# Altium integrated library ST Video Signal Processor.IntLib: 10 symbols
Pins are listed as number, name and electrical type; pins without a type are passive.

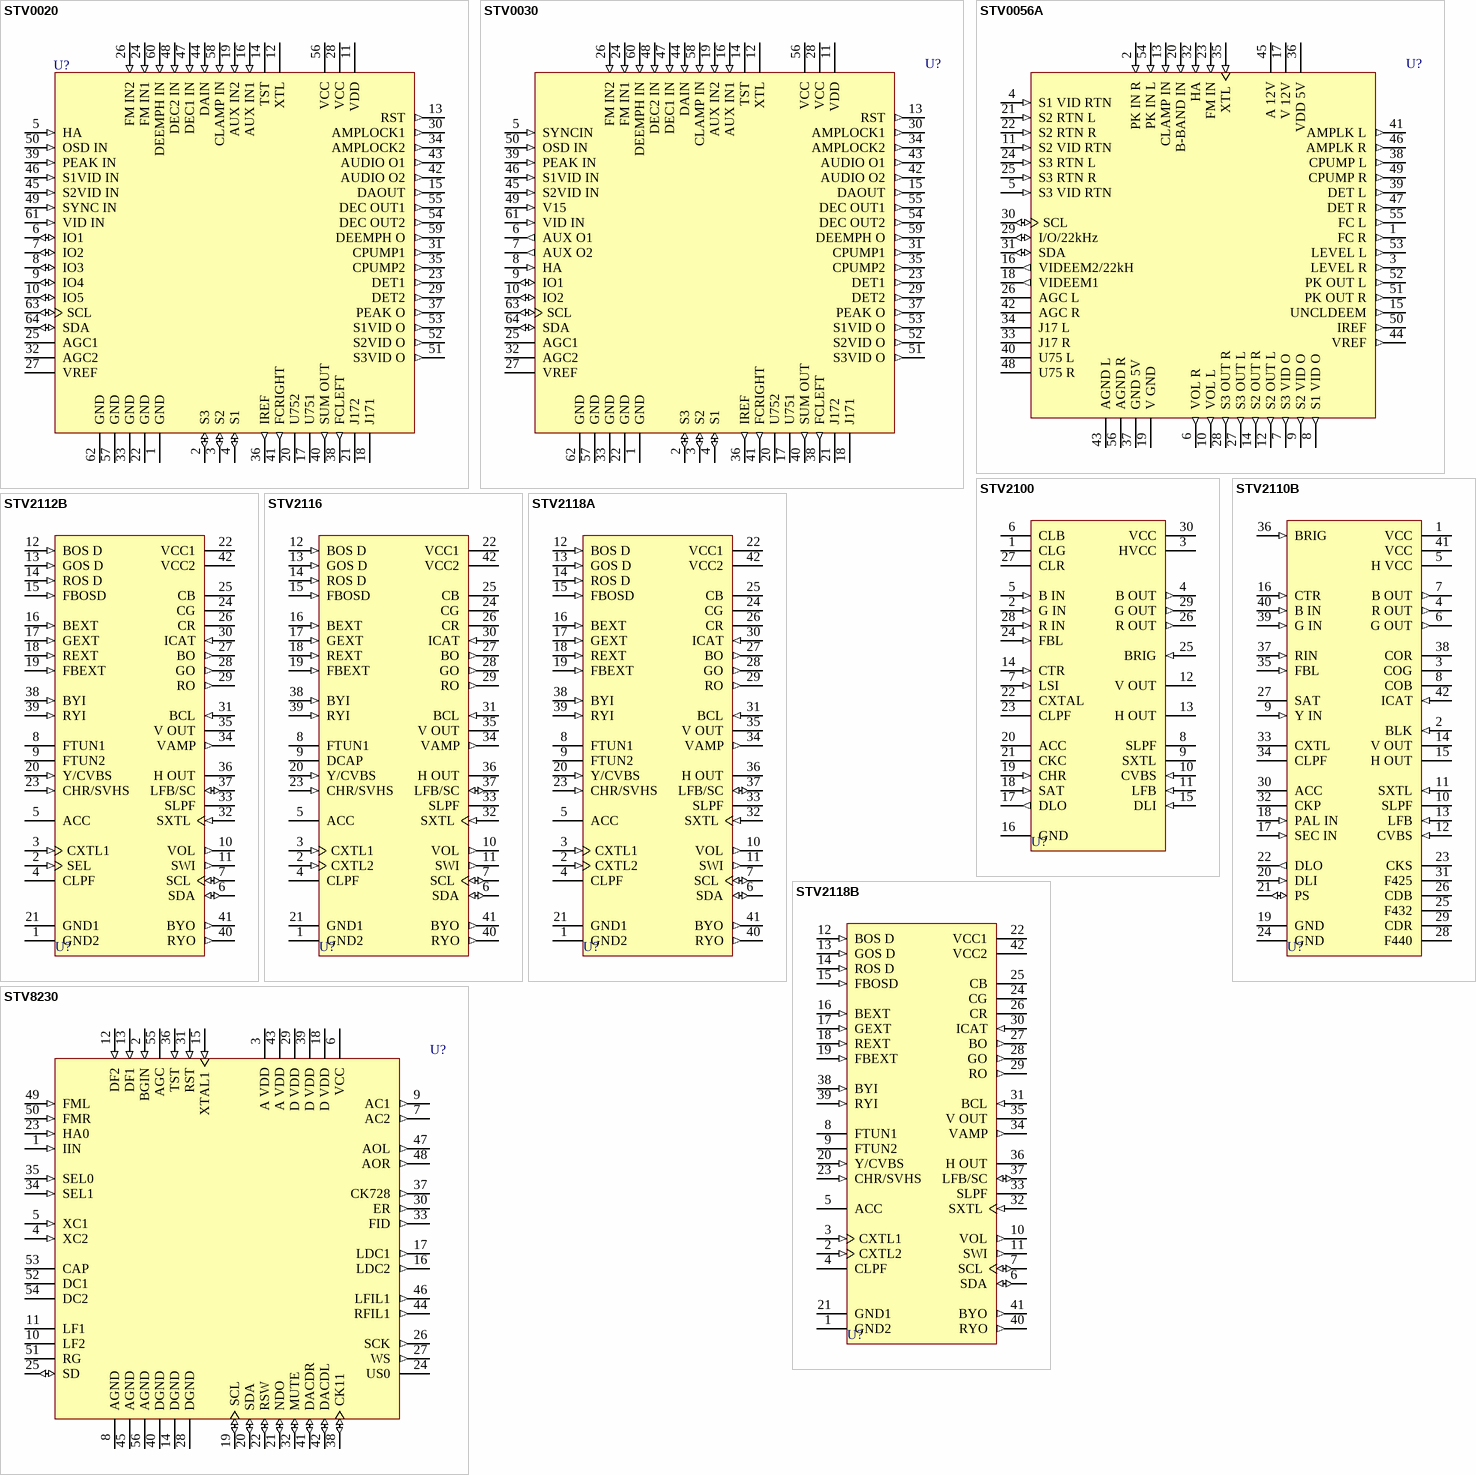
[diagram p0: symbols STV0020 to STV8230]

## STV0020
designator U?
Satellite Sound and Video Processor; Published: 24-Aug-2001; LatestRevisionDate: 6-Jun-2005; LatestRevisionNote: Stylized 3D Model Added.; DatasheetDocument: Feb-1994; PackageDocument: Jul-2001; PackageReference: PQFP64; Publisher: Altium Limited; ComponentLink1Description: Manufacturer Link; ComponentLink1URL: http://www.st.com/
footprint PQFP64 (QFP, Plastic; 64 Leads; Body 14 x 14 mm; Pitch 0.8 mm)
3D model STV0020-PQFP64 (QFP, Plastic; 64 Leads; Body 14 x 14 mm; Pitch 0.8 mm)
pins: 1 GND (power), 2 S3 (io), 3 S2 (io), 4 S1 (io), 5 HA (in), 6 IO1 (io), 7 IO2 (io), 8 IO3 (io), 9 IO4 (io), 10 IO5 (io), 11 VDD (power), 12 XTL, 13 RST (out), 14 TST, 15 DAOUT (out), 16 AUX IN1 (in), 17 U751, 18 J171, 19 AUX IN2 (in), 20 U752, 21 J172, 22 GND (power), 23 DET1 (out), 24 FM IN1 (in), 25 AGC1, 26 FM IN2 (in), 27 VREF, 28 VCC (power), 29 DET2 (out), 30 AMPLOCK1 (out), 31 CPUMP1 (out), 32 AGC2, 33 GND (power), 34 AMPLOCK2 (out), 35 CPUMP2 (out), 36 IREF (out), 37 PEAK O (out), 38 FCLEFT (out), 39 PEAK IN (in), 40 SUM OUT (out), 41 FCRIGHT (out), 42 AUDIO O2 (out), 43 AUDIO O1 (out), 44 DAIN (in), 45 S2VID IN (in), 46 S1VID IN (in), 47 DEC1 IN (in), 48 DEC2 IN (in), 49 SYNC IN (in), 50 OSD IN (in), 51 S3VID O (out), 52 S2VID O (out), 53 S1VID O (out), 54 DEC OUT2 (out), 55 DEC OUT1 (out), 56 VCC (power), 57 GND (power), 58 CLAMP IN (in), 59 DEEMPH O (out), 60 DEEMPH IN (in), 61 VID IN (in), 62 GND (power), 63 SCL (io), 64 SDA (io)

## STV0030
designator U?
Satellite Sound and Video Processor; Published: 24-Aug-2001; LatestRevisionDate: 6-Jun-2005; LatestRevisionNote: Stylized 3D Model Added.; DatasheetDocument: Jun-1994; PackageDocument: Jul-2001; PackageReference: PQFP64; Publisher: Altium Limited; ComponentLink1Description: Manufacturer Link; ComponentLink1URL: http://www.st.com/
footprint PQFP64 (QFP, Plastic; 64 Leads; Body 14 x 14 mm; Pitch 0.8 mm)
3D model STV0030-PQFP64 (QFP, Plastic; 64 Leads; Body 14 x 14 mm; Pitch 0.8 mm)
pins: 1 GND (power), 2 S3 (io), 3 S2 (io), 4 S1 (io), 5 SYNCIN (in), 6 AUX O1 (out), 7 AUX O2 (out), 8 HA (in), 9 IO1 (io), 10 IO2 (io), 11 VDD (power), 12 XTL, 13 RST (out), 14 TST, 15 DAOUT (out), 16 AUX IN1 (in), 17 U751, 18 J171, 19 AUX IN2 (in), 20 U752, 21 J172, 22 GND (power), 23 DET1 (out), 24 FM IN1 (in), 25 AGC1, 26 FM IN2 (in), 27 VREF, 28 VCC (power), 29 DET2 (out), 30 AMPLOCK1 (out), 31 CPUMP1 (out), 32 AGC2, 33 GND (power), 34 AMPLOCK2 (out), 35 CPUMP2 (out), 36 IREF (out), 37 PEAK O (out), 38 FCLEFT (out), 39 PEAK IN (in), 40 SUM OUT (out), 41 FCRIGHT (out), 42 AUDIO O2 (out), 43 AUDIO O1 (out), 44 DAIN (in), 45 S2VID IN (in), 46 S1VID IN (in), 47 DEC1 IN (in), 48 DEC2 IN (in), 49 V15 (in), 50 OSD IN (in), 51 S3VID O (out), 52 S2VID O (out), 53 S1VID O (out), 54 DEC OUT2 (out), 55 DEC OUT1 (out), 56 VCC (power), 57 GND (power), 58 CLAMP IN (in), 59 DEEMPH O (out), 60 DEEMPH IN (in), 61 VID IN (in), 62 GND (power), 63 SCL (io), 64 SDA (io)

## STV0056A
designator U?
Satellite Sound and Video Processor; Published: 24-Aug-2001; LatestRevisionDate: 6-Jun-2005; LatestRevisionNote: Stylized 3D Model Added.; DatasheetDocument: Sep-1996; PackageDocument: Jan-2002; PackageReference: PSDIP56; Publisher: Altium Limited; ComponentLink1Description: Manufacturer Link; ComponentLink1URL: http://www.st.com/; ComponentLink2Description: Datasheet; ComponentLink2URL: http://www.st.com/stonline/products/literature/ds/10589/stv0056a.pdf
footprint PSDIP56 (DIP, Plastic Shrink; 56 Leads; Row Spacing 15.24 mm; Pitch 1.78 mm)
3D model PSDIP56 (DIP, Plastic Shrink; 56 Leads; Row Spacing 15.24 mm; Pitch 1.78 mm)
pins: 1 FC R (out), 2 PK IN R (in), 3 LEVEL R (out), 4 S1 VID RTN (in), 5 S3 VID RTN (in), 6 VOL R (out), 7 S3 VID O (out), 8 S1 VID O (out), 9 S2 VID O (out), 10 VOL L (out), 11 S2 VID RTN (in), 12 S2 OUT L (out), 13 CLAMP IN (in), 14 S2 OUT R (out), 15 UNCLDEEM (out), 16 VIDEEM2/22kH (out), 17 V 12V (power), 18 VIDEEM1 (out), 19 V GND (power), 20 B-BAND IN (in), 21 S2 RTN L (in), 22 S2 RTN R (in), 23 FM IN (in), 24 S3 RTN L (in), 25 S3 RTN R (in), 26 AGC L, 27 S3 OUT L (out), 28 S3 OUT R (out), 29 I/O/22kHz (io), 30 SCL (io), 31 SDA (io), 32 HA (in), 33 J17 R, 34 J17 L, 35 XTL (in), 36 VDD 5V (power), 37 GND 5V (power), 38 CPUMP L (out), 39 DET L (out), 40 U75 L, 41 AMPLK L (out), 42 AGC R, 43 AGND L (power), 44 VREF (out), 45 A 12V (power), 46 AMPLK R (out), 47 DET R (out), 48 U75 R, 49 CPUMP R (out), 50 IREF (out), 51 PK OUT R (out), 52 PK OUT L (out), 53 LEVEL L (out), 54 PK IN L (in), 55 FC L (out), 56 AGND R (power)

## STV2100
designator U?
PAL Luma-Chroma and Deflection Processor; Published: 24-Aug-2001; LatestRevisionDate: 6-Jun-2005; LatestRevisionNote: Stylized 3D Model Added.; DatasheetDocument: Mar-1992; PackageDocument: Nov-1999; PackageReference: SDIP30; Publisher: Altium Limited; ComponentLink1Description: Manufacturer Link; ComponentLink1URL: http://www.st.com/
footprint SDIP30 (DIP; 30 Leads; Row Spacing 10.16 mm; Pitch 1.778 mm)
3D model SDIP30 (DIP; 30 Leads; Row Spacing 10.16 mm; Pitch 1.778 mm)
pins: 1 CLG, 2 G IN (in), 3 HVCC (power), 4 B OUT (out), 5 B IN (in), 6 CLB, 7 LSI (in), 8 SLPF, 9 SXTL, 10 CVBS (in), 11 LFB (in), 12 V OUT (oc), 13 H OUT (oc), 14 CTR (in), 15 DLI (in), 16 GND (power), 17 DLO (out), 18 SAT (in), 19 CHR (in), 20 ACC, 21 CKC, 22 CXTAL, 23 CLPF, 24 FBL (in), 25 BRIG (in), 26 R OUT (out), 27 CLR, 28 R IN (in), 29 G OUT (out), 30 VCC (power)

## STV2110B
designator U?
PAL-SECAM Luma-Chroma and Deflection Processor; Published: 24-Aug-2001; LatestRevisionDate: 6-Jun-2005; LatestRevisionNote: Stylized 3D Model Added.; DatasheetDocument: Apr-1996; PackageDocument: Oct-2003; PackageReference: PSDIP42; Publisher: Altium Limited; ComponentLink1Description: Manufacturer Link; ComponentLink1URL: http://www.st.com/
footprint PSDIP42 (DIP, Plastic Shrink; 42 Leads; Row Spacing 15.24 mm; Pitch 1.78 mm)
3D model PSDIP42 (DIP, Plastic Shrink; 42 Leads; Row Spacing 15.24 mm; Pitch 1.78 mm)
pins: 1 VCC (power), 2 BLK (in), 3 COG, 4 R OUT (out), 5 H VCC (power), 6 G OUT (out), 7 B OUT (out), 8 COB, 9 Y IN (in), 10 SLPF, 11 SXTL (in), 12 CVBS (in), 13 LFB (in), 14 V OUT (oc), 15 H OUT (oc), 16 CTR (in), 17 SEC IN (in), 18 PAL IN (in), 19 GND (power), 20 DLI (in), 21 PS (io), 22 DLO (out), 23 CKS, 24 GND (power), 25 F432, 26 CDB, 27 SAT, 28 F440, 29 CDR, 30 ACC, 31 F425, 32 CKP, 33 CXTL, 34 CLPF, 35 FBL (in), 36 BRIG (in), 37 RIN (in), 38 COR, 39 G IN (in), 40 B IN (in), 41 VCC (power), 42 ICAT (in)

## STV2112B
designator U?
Bus-Controlled PAL/SECAM TV Processor; Published: 24-Aug-2001; LatestRevisionDate: 6-Jun-2005; LatestRevisionNote: Stylized 3D Model Added.; DatasheetDocument: Aug-1998; PackageDocument: Oct-2003; PackageReference: PSDIP42; Publisher: Altium Limited; ComponentLink1Description: Manufacturer Link; ComponentLink1URL: http://www.st.com/
footprint PSDIP42 (DIP, Plastic Shrink; 42 Leads; Row Spacing 15.24 mm; Pitch 1.78 mm)
3D model PSDIP42 (DIP, Plastic Shrink; 42 Leads; Row Spacing 15.24 mm; Pitch 1.78 mm)
pins: 1 GND2 (power), 2 SEL (in), 3 CXTL1 (in), 4 CLPF, 5 ACC, 6 SDA (io), 7 SCL (io), 8 FTUN1, 9 FTUN2, 10 VOL (out), 11 SWI (out), 12 BOS D (in), 13 GOS D (in), 14 ROS D (in), 15 FBOSD (in), 16 BEXT (in), 17 GEXT (in), 18 REXT (in), 19 FBEXT (in), 20 Y/CVBS (in), 21 GND1 (power), 22 VCC1 (power), 23 CHR/SVHS (in), 24 CG, 25 CB, 26 CR, 27 BO (out), 28 GO (out), 29 RO (out), 30 ICAT (in), 31 BCL (in), 32 SXTL (in), 33 SLPF, 34 VAMP (out), 35 V OUT (oc), 36 H OUT (oc), 37 LFB/SC (io), 38 BYI (in), 39 RYI (in), 40 RYO (out), 41 BYO (out), 42 VCC2 (power)

## STV2116
designator U?
Bus-Controlled PAL/NTSC TV Processor; Published: 24-Aug-2001; LatestRevisionDate: 6-Jun-2005; LatestRevisionNote: Stylized 3D Model Added.; DatasheetDocument: Nov-1995; PackageDocument: Oct-2003; PackageReference: PSDIP42; Publisher: Altium Limited; ComponentLink1Description: Manufacturer Link; ComponentLink1URL: http://www.st.com/
footprint PSDIP42 (DIP, Plastic Shrink; 42 Leads; Row Spacing 15.24 mm; Pitch 1.78 mm)
3D model PSDIP42 (DIP, Plastic Shrink; 42 Leads; Row Spacing 15.24 mm; Pitch 1.78 mm)
pins: 1 GND2 (power), 2 CXTL2 (in), 3 CXTL1 (in), 4 CLPF, 5 ACC, 6 SDA (io), 7 SCL (io), 8 FTUN1, 9 DCAP, 10 VOL (out), 11 SWI (out), 12 BOS D (in), 13 GOS D (in), 14 ROS D (in), 15 FBOSD (in), 16 BEXT (in), 17 GEXT (in), 18 REXT (in), 19 FBEXT (in), 20 Y/CVBS (in), 21 GND1 (power), 22 VCC1 (power), 23 CHR/SVHS (in), 24 CG, 25 CB, 26 CR, 27 BO (out), 28 GO (out), 29 RO (out), 30 ICAT (in), 31 BCL (in), 32 SXTL (in), 33 SLPF, 34 VAMP (out), 35 V OUT (oc), 36 H OUT (oc), 37 LFB/SC (io), 38 BYI (in), 39 RYI (in), 40 RYO (out), 41 BYO (out), 42 VCC2 (power)

## STV2118A
designator U?
Bus-Controlled PAL/SECAM/NTSC TV Processor; Published: 24-Aug-2001; LatestRevisionDate: 6-Jun-2005; LatestRevisionNote: Stylized 3D Model Added.; DatasheetDocument: Nov-1995; PackageDocument: Oct-2003; PackageReference: PSDIP42; Publisher: Altium Limited; ComponentLink1Description: Manufacturer Link; ComponentLink1URL: http://www.st.com/
footprint PSDIP42 (DIP, Plastic Shrink; 42 Leads; Row Spacing 15.24 mm; Pitch 1.78 mm)
3D model PSDIP42 (DIP, Plastic Shrink; 42 Leads; Row Spacing 15.24 mm; Pitch 1.78 mm)
pins: 1 GND2 (power), 2 CXTL2 (in), 3 CXTL1 (in), 4 CLPF, 5 ACC, 6 SDA (io), 7 SCL (io), 8 FTUN1, 9 FTUN2, 10 VOL (out), 11 SWI (out), 12 BOS D (in), 13 GOS D (in), 14 ROS D (in), 15 FBOSD (in), 16 BEXT (in), 17 GEXT (in), 18 REXT (in), 19 FBEXT (in), 20 Y/CVBS (in), 21 GND1 (power), 22 VCC1 (power), 23 CHR/SVHS (in), 24 CG, 25 CB, 26 CR, 27 BO (out), 28 GO (out), 29 RO (out), 30 ICAT (in), 31 BCL (in), 32 SXTL (in), 33 SLPF, 34 VAMP (out), 35 V OUT (oc), 36 H OUT (oc), 37 LFB/SC (io), 38 BYI (in), 39 RYI (in), 40 RYO (out), 41 BYO (out), 42 VCC2 (power)

## STV2118B
designator U?
Bus-Controlled PAL/SECAM/NTSC TV Processor; Published: 24-Aug-2001; LatestRevisionDate: 6-Jun-2005; LatestRevisionNote: Stylized 3D Model Added.; DatasheetDocument: Jun-1996; PackageDocument: Oct-2003; PackageReference: PSDIP42; Publisher: Altium Limited; ComponentLink1Description: Manufacturer Link; ComponentLink1URL: http://www.st.com/
footprint PSDIP42 (DIP, Plastic Shrink; 42 Leads; Row Spacing 15.24 mm; Pitch 1.78 mm)
3D model PSDIP42 (DIP, Plastic Shrink; 42 Leads; Row Spacing 15.24 mm; Pitch 1.78 mm)
pins: 1 GND2 (power), 2 CXTL2 (in), 3 CXTL1 (in), 4 CLPF, 5 ACC, 6 SDA (io), 7 SCL (io), 8 FTUN1, 9 FTUN2, 10 VOL (out), 11 SWI (out), 12 BOS D (in), 13 GOS D (in), 14 ROS D (in), 15 FBOSD (in), 16 BEXT (in), 17 GEXT (in), 18 REXT (in), 19 FBEXT (in), 20 Y/CVBS (in), 21 GND1 (power), 22 VCC1 (power), 23 CHR/SVHS (in), 24 CG, 25 CB, 26 CR, 27 BO (out), 28 GO (out), 29 RO (out), 30 ICAT (in), 31 BCL (in), 32 SXTL (in), 33 SLPF, 34 VAMP (out), 35 V OUT (oc), 36 H OUT (oc), 37 LFB/SC (io), 38 BYI (in), 39 RYI (in), 40 RYO (out), 41 BYO (out), 42 VCC2 (power)

## STV8230
designator U?
NICAM Single Chip; Published: 24-Aug-2001; LatestRevisionDate: 6-Jun-2005; LatestRevisionNote: Stylized 3D Model Added.; DatasheetDocument: Jun-1994; PackageDocument: Jan-2002; PackageReference: PSDIP56; Publisher: Altium Limited; ComponentLink1Description: Manufacturer Link; ComponentLink1URL: http://www.st.com/
footprint PSDIP56 (DIP, Plastic Shrink; 56 Leads; Row Spacing 15.24 mm; Pitch 1.78 mm)
3D model PSDIP56 (DIP, Plastic Shrink; 56 Leads; Row Spacing 15.24 mm; Pitch 1.78 mm)
pins: 1 IIN (in), 2 BGIN (in), 3 A VDD (power), 4 XC2 (in), 5 XC1 (in), 6 VCC (power), 7 AC2 (out), 8 AGND (power), 9 AC1 (out), 10 LF2, 11 LF1, 12 DF2 (in), 13 DF1 (in), 14 DGND (power), 15 XTAL1 (in), 16 LDC2 (out), 17 LDC1 (out), 18 D VDD (power), 19 SCL (io), 20 SDA (io), 21 NDO (io), 22 RSW (io), 23 HA0 (in), 24 US0 (oc), 25 SD (io), 26 SCK (out), 27 WS (out), 28 DGND (power), 29 D VDD (power), 30 ER (out), 31 RST (in), 32 MUTE (io), 33 FID (out), 34 SEL1 (in), 35 SEL0 (in), 36 TST (in), 37 CK728 (out), 38 CK11 (io), 39 D VDD (power), 40 DGND (power), 41 DACDR (io), 42 DACDL (io), 43 A VDD (power), 44 RFIL1 (out), 45 AGND (power), 46 LFIL1 (out), 47 AOL (out), 48 AOR (out), 49 FML (in), 50 FMR (in), 51 RG, 52 DC1, 53 CAP, 54 DC2, 55 AGC, 56 AGND (power)